# Altium schematic symbol library Arduino.SchLib: 21 symbols
Pins are listed as number, name and electrical type; pins without a type are passive.

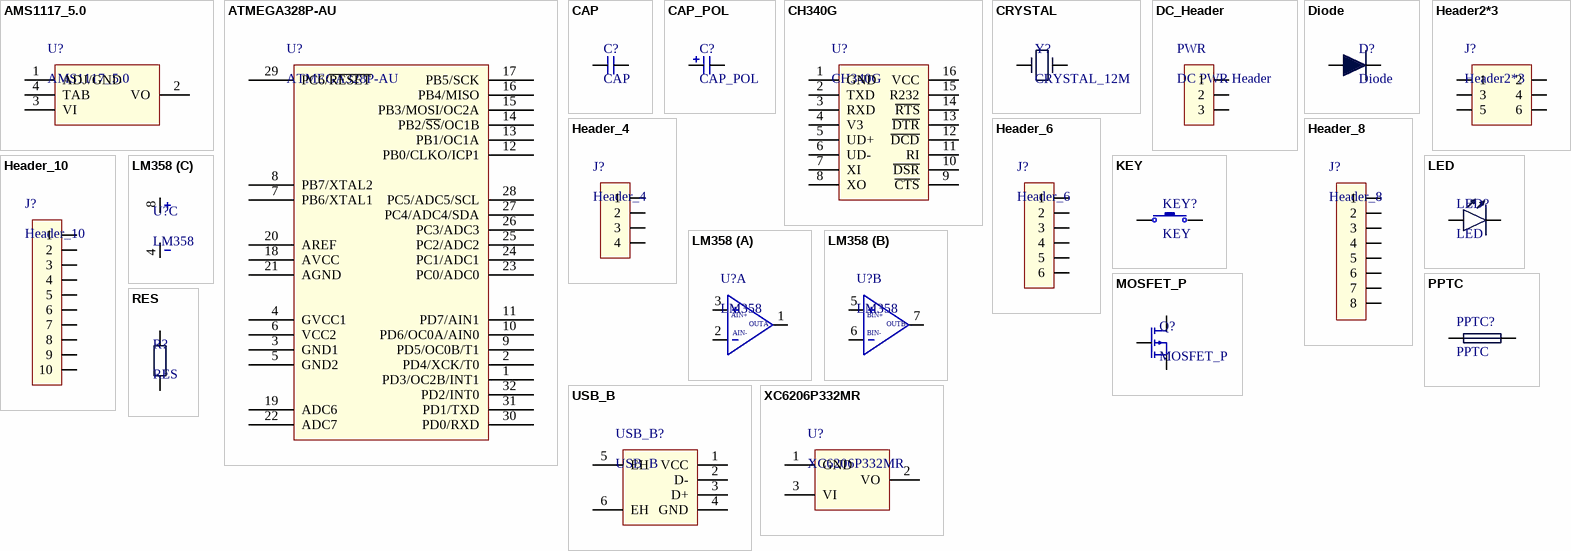
[diagram p0: symbols AMS1117_5.0 to XC6206P332MR]

## AMS1117_5.0
designator U?
Power_Lower to 5.0v
footprint AMS_1117_SOT-223
pins: 1 ADJ/GND, 2 VO, 3 VI, 4 TAB

## ATMEGA328P-AU
designator U?
footprint ATMEG328P_AU_TQFP (PIN32_TQFP)
pins: 1 PD3/OC2B/INT1, 2 PD4/XCK/T0, 3 GND1, 4 GVCC1, 5 GND2, 6 VCC2, 7 PB6/XTAL1, 8 PB7/XTAL2, 9 PD5/OC0B/T1, 10 PD6/OC0A/AIN0, 11 PD7/AIN1, 12 PB0/CLKO/ICP1, 13 PB1/OC1A, 14 PB2/~{SS}/OC1B, 15 PB3/MOSI/OC2A, 16 PB4/MISO, 17 PB5/SCK, 18 AVCC, 19 ADC6, 20 AREF, 21 AGND, 22 ADC7, 23 PC0/ADC0, 24 PC1/ADC1, 25 PC2/ADC2, 26 PC3/ADC3, 27 PC4/ADC4/SDA, 28 PC5/ADC5/SCL, 29 PC6/~{RESET}, 30 PD0/RXD, 31 PD1/TXD, 32 PD2/INT0

## CAP
designator C?
footprint C0805
pins: 1, 2

## CAP_POL
designator C?
footprint CAP-TH_POL
pins: 1, 2

## CH340G
designator U?
footprint CH340G_SOIC
pins: 1 GND, 2 TXD, 3 RXD, 4 V3, 5 UD+, 6 UD-, 7 XI, 8 XO, 9 ~{CTS}, 10 ~{DSR}, 11 RI, 12 ~{DCD}, 13 ~{DTR}, 14 ~{RTS}, 15 R232, 16 VCC

## CRYSTAL
designator Y?, comment CRYSTAL_12M
CRYSTAL
footprint CRYSTAL
pins: 1, 2

## DC_Header
designator PWR, comment DC PWR Header
DC_PWR
footprint DC-IN-TH_DC005
pins: 1, 2, 3

## Diode
designator D?
footprint D1206-RD
pins: 1, 2

## Header2*3
designator J?
footprint HDR-TH_2_3P
pins: 1, 2, 3, 4, 5, 6

## Header_4
designator J?
footprint HDR-TH_4P-P2.54-V
pins: 1, 2, 3, 4

## Header_6
designator J?
footprint HDR-TH_6P-P2.54-V
pins: 1, 2, 3, 4, 5, 6

## Header_8
designator J?
footprint HDR-TH_8P-P2.54-V
pins: 1, 2, 3, 4, 5, 6, 7, 8

## Header_10
designator J?
footprint HDR-TH_10P-P2.54-V
pins: 1, 2, 3, 4, 5, 6, 7, 8, 9, 10

## KEY
designator KEY?
footprint KEY-TH_4P
pins: 1, 2 hidden, 3, 4 hidden

## LED
designator LED?
footprint LED0805-R-RD
pins: 1, 2

## LM358
designator U?
footprint LM358_SOP-8
part A pins: 1, 2, 3
part B pins: 5, 6, 7
part C pins: 4, 8
part A text: AIN+; OUTA; AIN-
part B text: BIN+; OUTB; BIN-

## MOSFET_P
designator Q?
footprint MOS_SOT-23-3
pins: 1 G, 2 S, 3 D

## PPTC
designator PPTC?
footprint PBY_0805
pins: 1, 2

## RES
designator R?
footprint R0805
pins: 1, 2

## USB_B
designator USB_B?
footprint USB-B-TH2
pins: 1 VCC, 2 D-, 3 D+, 4 GND, 5 EH, 6 EH

## XC6206P332MR
designator U?
XC6206P332MR Power Lower to 3.3v
footprint XC_SOT-23-3
pins: 1 GND, 2 VO, 3 VI